# EAGLE library part TDA7350 (library Audio-Power-amlifier V.2.0)
The TDA7350 22W BRIDGE-STEREO AMPLIFIER FOR CAR RADIO,is a new technology class AB Audio Power Amplifier in the Multiwatt® package designed for car radio applications
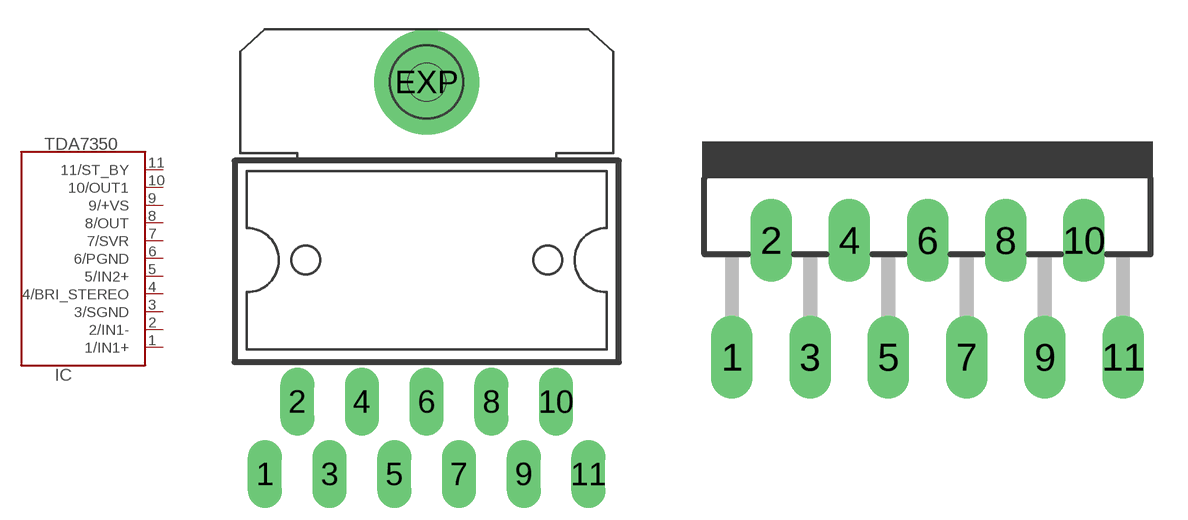
[diagram p222: symbol with the pads of MULTIWAT11H; footprints MULTIWAT11H, MULTIWATT-11]

Designator prefix IC

## TDA7350H  [MULTIWAT11H]
1  1/IN1+  in
2  2/IN1-  in
3  3/SGND  pwr
4  4/BRI_STEREO  in
5  5/IN2+  in
6  6/PGND  pwr
7  7/SVR
8  8/OUT  out
9  9/+VS  pwr
10  10/OUT1  out
11  11/ST_BY  in

## TDA7350V  [MULTIWATT-11]
Pads as for MULTIWAT11H

## Footprint MULTIWAT11H (pad centres in mm)
Multiwatt11 H (Short leads)
drill 0.9 pad 1.778 long: 1 -8.5,-3.81; 2 -6.8,0; 3 -5.1,-3.81; 4 -3.4,0; 5 -1.7,-3.81; 6 0,0; 7 1.7,-3.81; 8 3.4,0; 9 5.1,-3.81; 10 6.8,0; 11 8.5,-3.81
drill 3.2 pad 5.5: EXP 0,16.81
hole 2 at 0,16.81

## Footprint MULTIWATT-11 (pad centres in mm)
Muliwatt 11 lead
drill 1.2 long: 1 -8.5,-6.35; 2 -6.8,-1.27; 3 -5.1,-6.35; 4 -3.4,-1.27; 5 -1.7,-6.35; 6 0,-1.27; 7 1.7,-6.35; 8 3.4,-1.27; 9 5.1,-6.35; 10 6.8,-1.27; 11 8.5,-6.35